# EAGLE library part LCW-107-XX-X-S-RE (library con-samtec02)
Male Header - LCW Series
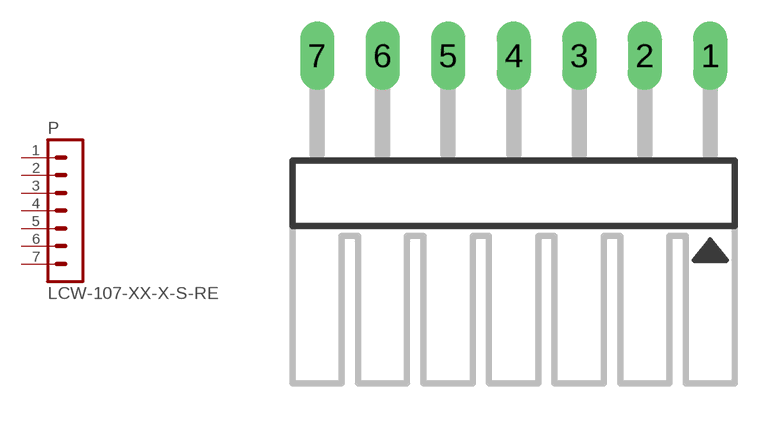
[diagram p9: symbol with the pads of LCW-107-XX-X-S-RE; footprint LCW-107-XX-X-S-RE]

Designator prefix P

## LCW-107-XX-X-S-RE  [LCW-107-XX-X-S-RE]
1  1  pas
2  2  pas
3  3  pas
4  4  pas
5  5  pas
6  6  pas
7  7  pas

## Footprint LCW-107-XX-X-S-RE (pad centres in mm)
Samtec LCW Series right angle, friction lock strips, 0.025" square pins
drill 0.813 long: 1 7.62,0; 2 5.08,0; 3 2.54,0; 4 0,0; 5 -2.54,0; 6 -5.08,0; 7 -7.62,0